# Altium integrated library Linear Technology PMIC-Switching Reg LT1074-LT8705.IntLib: 2252 symbols (part 2 of 124)
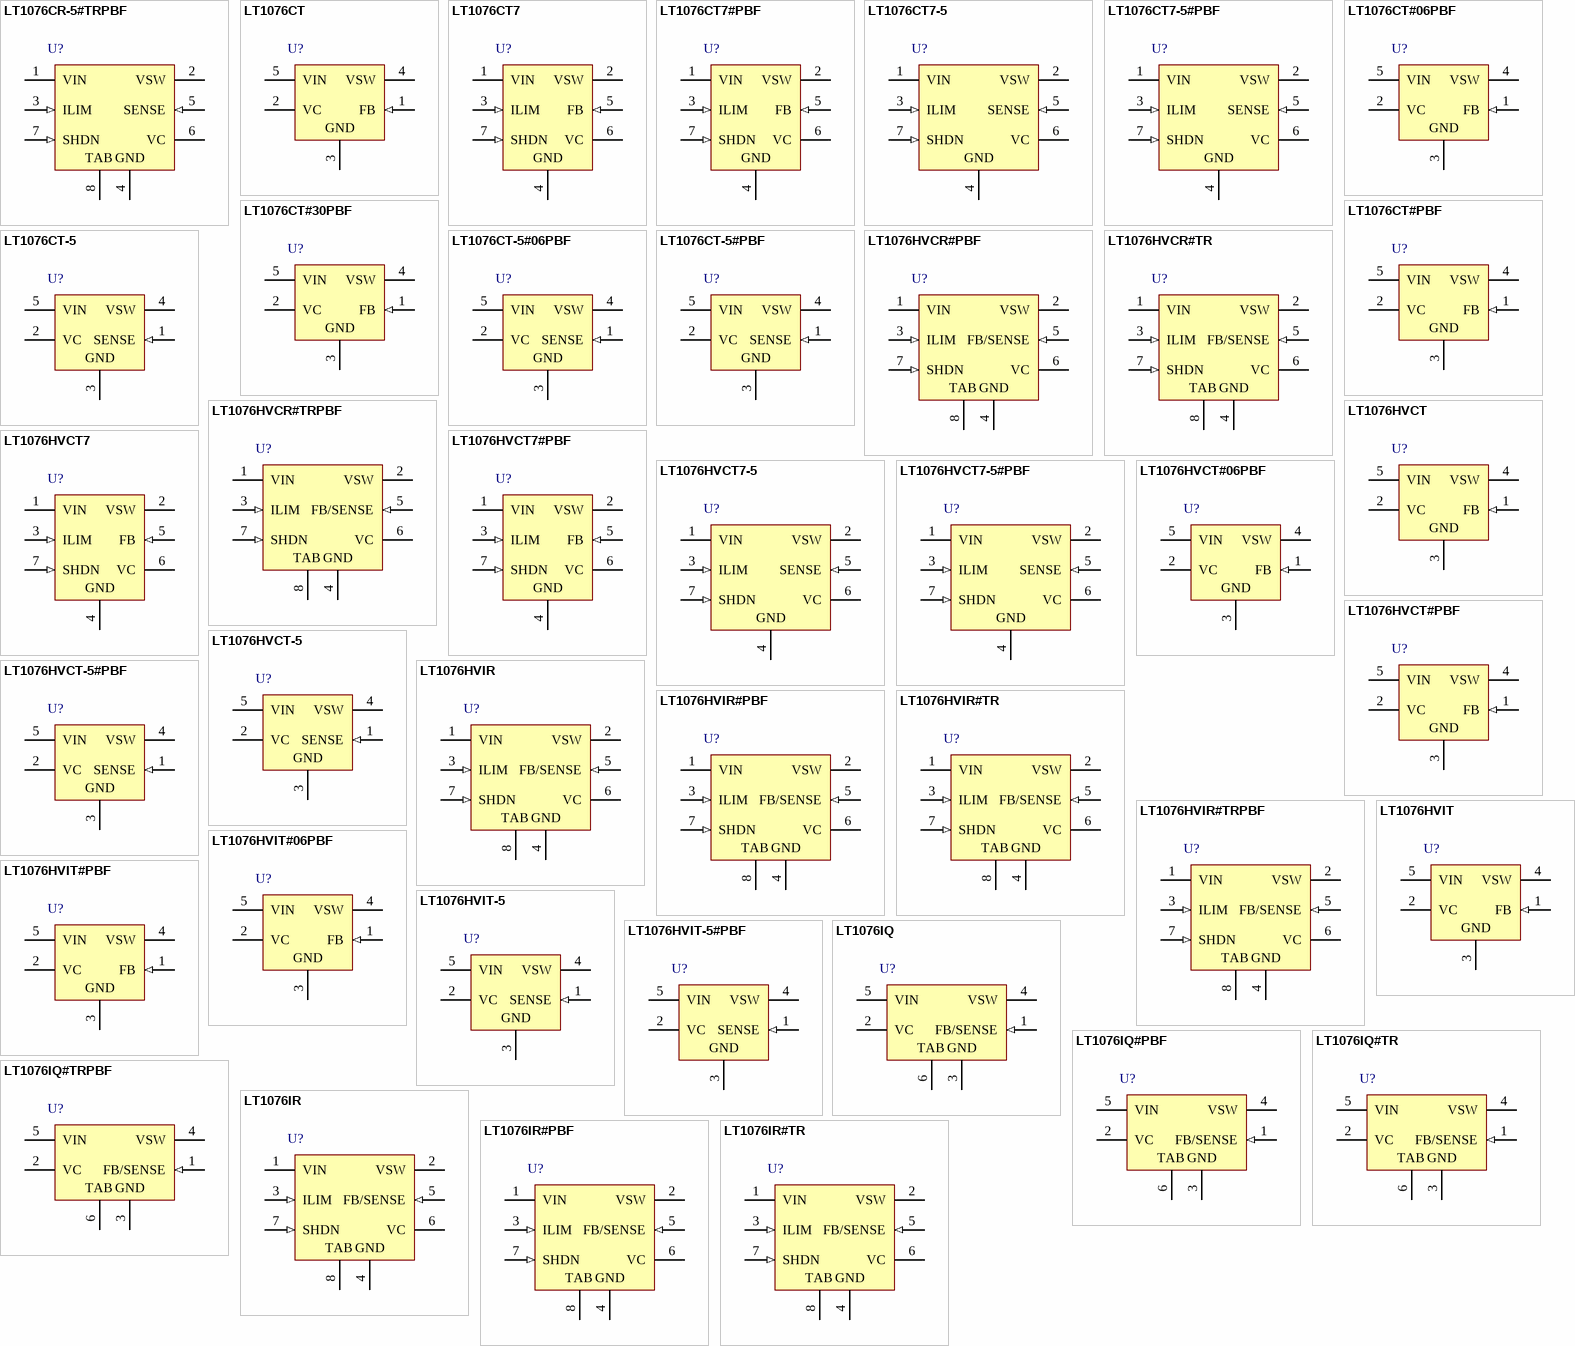
[diagram p72: symbols LT1076CR-5#TRPBF to LT1076IR#TR]

## LT1076CT7#PBF
designator U?
Step-Down Switching Regulator, 7-pin FM (T7-7), 0 to 70 degC, Pb-Free; Manufacturer: Linear Technology; PartNumber: LT1076CT7#PBF; Number of Outputs: 1; PackageReference: T7-7; PackageDescription: 7-Pin Plastic TO-220 (Straight Lead), Body 10.224 x 4.382 mm, Pitch 1.27 mm; Supplier 1: Digi-Key; Supplier Part Number 1: LT1076CT7#PBF-ND; RoHS: TRUE
footprint LT-T7-7-S_V (FM, 7-Leads, Body 10.55x4.6mm, Pitch 1.27mm)
pins: 1 VIN (power) "The VIN pin is both the supply voltage for internal control circuitry and one end of the high current switch.", 2 VSW (power), 3 ILIM (in) "The ILIM pin is used to reduce current limit below the preset value of 6.5A.", 4 GND (power) "It might seem unusual to describe a ground pin, but in the case of regulators, the ground pin must be connected properly to ensure good load regulation.", 5 FB (in) "The feedback pin is the inverting input of an error amplifier which controls the regulator output by adjusting duty cycle.", 6 VC, 7 SHDN (in) "The shutdown pin is used for undervoltage lockout, micropower shutdown, soft-start, delayed start, or as a general purpose on/off control of the regulator output."

## LT1076CT7-5
designator U?
Step-Down Switching Regulator, 7-pin FM (T7-7), 0 to 70 degC; Manufacturer: Linear Technology; PartNumber: LT1076CT7-5; Number of Outputs: 1; PackageReference: T7-7; PackageDescription: 7-Pin Plastic TO-220 (Straight Lead), Body 10.224 x 4.382 mm, Pitch 1.27 mm; Supplier 1: Digi-Key; Supplier Part Number 1: LT1076CT7-5-ND; RoHS: FALSE
footprint LT-T7-7-S_V (FM, 7-Leads, Body 10.55x4.6mm, Pitch 1.27mm)
pins: 1 VIN (power), 2 VSW (power), 3 ILIM (in), 4 GND (power), 5 SENSE (in), 6 VC, 7 SHDN (in)

## LT1076CT7-5#PBF
designator U?
Step-Down Switching Regulator, 7-pin FM (T7-7), 0 to 70 degC, Pb-Free; Manufacturer: Linear Technology; PartNumber: LT1076CT7-5#PBF; Number of Outputs: 1; PackageReference: T7-7; PackageDescription: 7-Pin Plastic TO-220 (Straight Lead), Body 10.224 x 4.382 mm, Pitch 1.27 mm; Supplier 1: Digi-Key; Supplier Part Number 1: LT1076CT7-5#PBF-ND; RoHS: TRUE
footprint LT-T7-7-S_V (FM, 7-Leads, Body 10.55x4.6mm, Pitch 1.27mm)
pins: 1 VIN (power), 2 VSW (power), 3 ILIM (in), 4 GND (power), 5 SENSE (in), 6 VC, 7 SHDN (in)

## LT1076CT#06PBF
designator U?
Step-Down Switching Regulator, 5-pin FM (T-5), 0 to 70 degC, Pb-Free; Manufacturer: Linear Technology; PartNumber: LT1076CT#06PBF; Number of Outputs: 1; PackageReference: T-5; PackageDescription: 5-Pin Plastic TO-220 (Standard), Body 10.224 x 8.89 mm, Pitch 1.7 mm; Supplier 1: Digi-Key; Supplier Part Number 1: LT1076CT#06PBF-ND; RoHS: TRUE
footprint LT-T-5-S (FM, 5-Leads, Body 10.55x4.6mm, Pitch 1.7mm)
pins: 1 FB (in) "The feedback pin is the inverting input of an error amplifier which controls the regulator output by adjusting duty cycle. The noninverting input is internally connected to a trimmed 2.21V reference. Input bias current is (See Datasheet)", 2 VC, 3 GND (power) "It might seem unusual to describe a ground pin, but in the case of regulators, the ground pin must be connected properly to ensure good load regulation. The internal reference voltage is referenced to the ground pin; so any (See Datasheet)", 4 VSW (power), 5 VIN (power) "The VIN pin is both the supply voltage for internal control circuitry and one end of the high current switch. It is important, especially at low input voltages, that this pin be bypassed with a low ESR, and low inductance (See Datasheet)"

## LT1076CT#30PBF
designator U?
Step-Down Switching Regulator, 5-pin FM (T-5), 0 to 70 degC, Pb-Free; Manufacturer: Linear Technology; PartNumber: LT1076CT#30PBF; Number of Outputs: 1; PackageReference: T-5; PackageDescription: 5-Pin Plastic TO-220 (Standard), Body 10.224 x 8.89 mm, Pitch 1.7 mm; Supplier 1: Digi-Key; Supplier Part Number 1: LT1076CT#30PBF-ND; RoHS: TRUE
footprint LT-T-5-S (FM, 5-Leads, Body 10.55x4.6mm, Pitch 1.7mm)
pins: 1 FB (in) "The feedback pin is the inverting input of an error amplifier which controls the regulator output by adjusting duty cycle. The noninverting input is internally connected to a trimmed 2.21V reference. Input bias current is (See Datasheet)", 2 VC, 3 GND (power) "It might seem unusual to describe a ground pin, but in the case of regulators, the ground pin must be connected properly to ensure good load regulation. The internal reference voltage is referenced to the ground pin; so any (See Datasheet)", 4 VSW (power), 5 VIN (power) "The VIN pin is both the supply voltage for internal control circuitry and one end of the high current switch. It is important, especially at low input voltages, that this pin be bypassed with a low ESR, and low inductance (See Datasheet)"

## LT1076CT#PBF
designator U?
Step-Down Switching Regulator, 5-pin FM (T-5), 0 to 70 degC, Pb-Free; Manufacturer: Linear Technology; PartNumber: LT1076CT#PBF; Number of Outputs: 1; PackageReference: T-5; PackageDescription: 5-Pin Plastic TO-220 (Standard), Body 10.224 x 8.89 mm, Pitch 1.7 mm; Supplier 1: Digi-Key; Supplier Part Number 1: LT1076CT#PBF-ND; RoHS: TRUE
footprint LT-T-5-S (FM, 5-Leads, Body 10.55x4.6mm, Pitch 1.7mm)
pins: 1 FB (in) "The feedback pin is the inverting input of an error amplifier which controls the regulator output by adjusting duty cycle. The noninverting input is internally connected to a trimmed 2.21V reference. Input bias current is (See Datasheet)", 2 VC, 3 GND (power) "It might seem unusual to describe a ground pin, but in the case of regulators, the ground pin must be connected properly to ensure good load regulation. The internal reference voltage is referenced to the ground pin; so any (See Datasheet)", 4 VSW (power), 5 VIN (power) "The VIN pin is both the supply voltage for internal control circuitry and one end of the high current switch. It is important, especially at low input voltages, that this pin be bypassed with a low ESR, and low inductance (See Datasheet)"

## LT1076CT-5
designator U?
Step-Down Switching Regulator, 5-pin FM (T-5), 0 to 70 degC; Manufacturer: Linear Technology; PartNumber: LT1076CT-5; Number of Outputs: 1; PackageReference: T-5; PackageDescription: 5-Pin Plastic TO-220 (Standard), Body 10.224 x 8.89 mm, Pitch 1.7 mm; Supplier 1: Digi-Key; Supplier Part Number 1: LT1076CT-5-ND; RoHS: FALSE
footprint LT-T-5-S (FM, 5-Leads, Body 10.55x4.6mm, Pitch 1.7mm)
pins: 1 SENSE (in), 2 VC, 3 GND (power), 4 VSW (power), 5 VIN (power)

## LT1076CT-5#06PBF
designator U?
Step-Down Switching Regulator, 5-pin FM (T-5), 0 to 70 degC, Pb-Free; Manufacturer: Linear Technology; PartNumber: LT1076CT-5#06PBF; Number of Outputs: 1; PackageReference: T-5; PackageDescription: 5-Pin Plastic TO-220 (Standard), Body 10.224 x 8.89 mm, Pitch 1.7 mm; Supplier 1: Digi-Key; Supplier Part Number 1: LT1076CT-5#06PBF-ND; RoHS: TRUE
footprint LT-T-5-S (FM, 5-Leads, Body 10.55x4.6mm, Pitch 1.7mm)
pins: 1 SENSE (in), 2 VC, 3 GND (power), 4 VSW (power), 5 VIN (power)

## LT1076CT-5#PBF
designator U?
Step-Down Switching Regulator, 5-pin FM (T-5), 0 to 70 degC, Pb-Free; Manufacturer: Linear Technology; PartNumber: LT1076CT-5#PBF; Number of Outputs: 1; PackageReference: T-5; PackageDescription: 5-Pin Plastic TO-220 (Standard), Body 10.224 x 8.89 mm, Pitch 1.7 mm; Supplier 1: Digi-Key; Supplier Part Number 1: LT1076CT-5#PBF-ND; RoHS: TRUE
footprint LT-T-5-S (FM, 5-Leads, Body 10.55x4.6mm, Pitch 1.7mm)
pins: 1 SENSE (in), 2 VC, 3 GND (power), 4 VSW (power), 5 VIN (power)

## LT1076HVCR#PBF
designator U?
Step-Down Switching Regulator, 7-pin DPAK (R-7), 0 to 70 degC, Pb-Free; Manufacturer: Linear Technology; PartNumber: LT1076HVCR#PBF; Number of Outputs: 1; PackageReference: R-7; PackageDescription: 7-Pin Plastic DD Pak, Body 10.2235 x 8.89 mm, Pitch 1.27 mm; Supplier 1: Digi-Key; Supplier Part Number 1: LT1076HVCR#PBF-ND; RoHS: TRUE
footprint LT-R-7_N (DPAK, 7-Leads, Body 10.224x8.89mm, Pitch 1.27mm, IPC Medium Density)
footprint LT-R-7_L (DPAK, 7-Leads, Body 10.224x8.89mm, Pitch 1.27mm, IPC High Density)
footprint LT-R-7_M (DPAK, 7-Leads, Body 10.224x8.89mm, Pitch 1.27mm, IPC Low Density)
pins: 1 VIN (power) "The VIN pin is both the supply voltage for internal control circuitry and one end of the high current switch.", 2 VSW (power), 3 ILIM (in) "The ILIM pin is used to reduce current limit below the preset value of 6.5A.", 4 GND (power) "It might seem unusual to describe a ground pin, but in the case of regulators, the ground pin must be connected properly to ensure good load regulation.", 5 FB/SENSE (in) "The feedback pin is the inverting input of an error amplifier which controls the regulator output by adjusting duty cycle.", 6 VC, 7 SHDN (in) "The shutdown pin is used for undervoltage lockout, micropower shutdown, soft-start, delayed start, or as a general purpose on/off control of the regulator output.", 8 TAB (power)

## LT1076HVCR#TR
designator U?
Step-Down Switching Regulator, 7-pin DPAK (R-7), 0 to 70 degC, Tape and Reel; Manufacturer: Linear Technology; PartNumber: LT1076HVCR#TR; Number of Outputs: 1; PackageReference: R-7; PackageDescription: 7-Pin Plastic DD Pak, Body 10.2235 x 8.89 mm, Pitch 1.27 mm; Supplier 1: Digi-Key; Supplier Part Number 1: LT1076HVCR#TR-ND; RoHS: FALSE
footprint LT-R-7_N (DPAK, 7-Leads, Body 10.224x8.89mm, Pitch 1.27mm, IPC Medium Density)
footprint LT-R-7_L (DPAK, 7-Leads, Body 10.224x8.89mm, Pitch 1.27mm, IPC High Density)
footprint LT-R-7_M (DPAK, 7-Leads, Body 10.224x8.89mm, Pitch 1.27mm, IPC Low Density)
pins: 1 VIN (power) "The VIN pin is both the supply voltage for internal control circuitry and one end of the high current switch.", 2 VSW (power), 3 ILIM (in) "The ILIM pin is used to reduce current limit below the preset value of 6.5A.", 4 GND (power) "It might seem unusual to describe a ground pin, but in the case of regulators, the ground pin must be connected properly to ensure good load regulation.", 5 FB/SENSE (in) "The feedback pin is the inverting input of an error amplifier which controls the regulator output by adjusting duty cycle.", 6 VC, 7 SHDN (in) "The shutdown pin is used for undervoltage lockout, micropower shutdown, soft-start, delayed start, or as a general purpose on/off control of the regulator output.", 8 TAB (power)

## LT1076HVCR#TRPBF
designator U?
Step-Down Switching Regulator, 7-pin DPAK (R-7), 0 to 70 degC, Pb-Free, Tape and Reel; Manufacturer: Linear Technology; PartNumber: LT1076HVCR#TRPBF; Number of Outputs: 1; PackageReference: R-7; PackageDescription: 7-Pin Plastic DD Pak, Body 10.2235 x 8.89 mm, Pitch 1.27 mm; Supplier 1: Digi-Key; Supplier Part Number 1: LT1076HVCR#TRPBF-ND; RoHS: TRUE
footprint LT-R-7_N (DPAK, 7-Leads, Body 10.224x8.89mm, Pitch 1.27mm, IPC Medium Density)
footprint LT-R-7_L (DPAK, 7-Leads, Body 10.224x8.89mm, Pitch 1.27mm, IPC High Density)
footprint LT-R-7_M (DPAK, 7-Leads, Body 10.224x8.89mm, Pitch 1.27mm, IPC Low Density)
pins: 1 VIN (power) "The VIN pin is both the supply voltage for internal control circuitry and one end of the high current switch.", 2 VSW (power), 3 ILIM (in) "The ILIM pin is used to reduce current limit below the preset value of 6.5A.", 4 GND (power) "It might seem unusual to describe a ground pin, but in the case of regulators, the ground pin must be connected properly to ensure good load regulation.", 5 FB/SENSE (in) "The feedback pin is the inverting input of an error amplifier which controls the regulator output by adjusting duty cycle.", 6 VC, 7 SHDN (in) "The shutdown pin is used for undervoltage lockout, micropower shutdown, soft-start, delayed start, or as a general purpose on/off control of the regulator output.", 8 TAB (power)

## LT1076HVCT
designator U?
Step-Down Switching Regulator, 5-pin FM (T-5), 0 to 70 degC; Manufacturer: Linear Technology; PartNumber: LT1076HVCT; Number of Outputs: 1; PackageReference: T-5; PackageDescription: 5-Pin Plastic TO-220 (Standard), Body 10.224 x 8.89 mm, Pitch 1.7 mm; Supplier 1: Digi-Key; Supplier Part Number 1: LT1076HVCT-ND; RoHS: FALSE
footprint LT-T-5-S (FM, 5-Leads, Body 10.55x4.6mm, Pitch 1.7mm)
pins: 1 FB (in) "The feedback pin is the inverting input of an error amplifier which controls the regulator output by adjusting duty cycle. The noninverting input is internally connected to a trimmed 2.21V reference. Input bias current is (See Datasheet)", 2 VC, 3 GND (power) "It might seem unusual to describe a ground pin, but in the case of regulators, the ground pin must be connected properly to ensure good load regulation. The internal reference voltage is referenced to the ground pin; so any (See Datasheet)", 4 VSW (power), 5 VIN (power) "The VIN pin is both the supply voltage for internal control circuitry and one end of the high current switch. It is important, especially at low input voltages, that this pin be bypassed with a low ESR, and low inductance (See Datasheet)"

## LT1076HVCT7
designator U?
Step-Down Switching Regulator, 7-pin FM (T7-7), 0 to 70 degC; Manufacturer: Linear Technology; PartNumber: LT1076HVCT7; Number of Outputs: 1; PackageReference: T7-7; PackageDescription: 7-Pin Plastic TO-220 (Straight Lead), Body 10.224 x 4.382 mm, Pitch 1.27 mm; Supplier 1: Digi-Key; Supplier Part Number 1: LT1076HVCT7-ND; RoHS: FALSE
footprint LT-T7-7-S_V (FM, 7-Leads, Body 10.55x4.6mm, Pitch 1.27mm)
pins: 1 VIN (power) "The VIN pin is both the supply voltage for internal control circuitry and one end of the high current switch.", 2 VSW (power), 3 ILIM (in) "The ILIM pin is used to reduce current limit below the preset value of 6.5A.", 4 GND (power) "It might seem unusual to describe a ground pin, but in the case of regulators, the ground pin must be connected properly to ensure good load regulation.", 5 FB (in) "The feedback pin is the inverting input of an error amplifier which controls the regulator output by adjusting duty cycle.", 6 VC, 7 SHDN (in) "The shutdown pin is used for undervoltage lockout, micropower shutdown, soft-start, delayed start, or as a general purpose on/off control of the regulator output."

## LT1076HVCT7#PBF
designator U?
Step-Down Switching Regulator, 7-pin FM (T7-7), 0 to 70 degC, Pb-Free; Manufacturer: Linear Technology; PartNumber: LT1076HVCT7#PBF; Number of Outputs: 1; PackageReference: T7-7; PackageDescription: 7-Pin Plastic TO-220 (Straight Lead), Body 10.224 x 4.382 mm, Pitch 1.27 mm; Supplier 1: Digi-Key; Supplier Part Number 1: LT1076HVCT7#PBF-ND; RoHS: TRUE
footprint LT-T7-7-S_V (FM, 7-Leads, Body 10.55x4.6mm, Pitch 1.27mm)
pins: 1 VIN (power) "The VIN pin is both the supply voltage for internal control circuitry and one end of the high current switch.", 2 VSW (power), 3 ILIM (in) "The ILIM pin is used to reduce current limit below the preset value of 6.5A.", 4 GND (power) "It might seem unusual to describe a ground pin, but in the case of regulators, the ground pin must be connected properly to ensure good load regulation.", 5 FB (in) "The feedback pin is the inverting input of an error amplifier which controls the regulator output by adjusting duty cycle.", 6 VC, 7 SHDN (in) "The shutdown pin is used for undervoltage lockout, micropower shutdown, soft-start, delayed start, or as a general purpose on/off control of the regulator output."

## LT1076HVCT7-5
designator U?
Step-Down Switching Regulator, 7-pin FM (T7-7), 0 to 70 degC; Manufacturer: Linear Technology; PartNumber: LT1076HVCT7-5; Number of Outputs: 1; PackageReference: T7-7; PackageDescription: 7-Pin Plastic TO-220 (Straight Lead), Body 10.224 x 4.382 mm, Pitch 1.27 mm; Supplier 1: Digi-Key; Supplier Part Number 1: LT1076HVCT7-5-ND; RoHS: FALSE
footprint LT-T7-7-S_V (FM, 7-Leads, Body 10.55x4.6mm, Pitch 1.27mm)
pins: 1 VIN (power), 2 VSW (power), 3 ILIM (in), 4 GND (power), 5 SENSE (in), 6 VC, 7 SHDN (in)

## LT1076HVCT7-5#PBF
designator U?
Step-Down Switching Regulator, 7-pin FM (T7-7), 0 to 70 degC, Pb-Free; Manufacturer: Linear Technology; PartNumber: LT1076HVCT7-5#PBF; Number of Outputs: 1; PackageReference: T7-7; PackageDescription: 7-Pin Plastic TO-220 (Straight Lead), Body 10.224 x 4.382 mm, Pitch 1.27 mm; Supplier 1: Digi-Key; Supplier Part Number 1: LT1076HVCT7-5#PBF-ND; RoHS: TRUE
footprint LT-T7-7-S_V (FM, 7-Leads, Body 10.55x4.6mm, Pitch 1.27mm)
pins: 1 VIN (power), 2 VSW (power), 3 ILIM (in), 4 GND (power), 5 SENSE (in), 6 VC, 7 SHDN (in)

## LT1076HVCT#06PBF
designator U?
Step-Down Switching Regulator, 5-pin FM (T-5), 0 to 70 degC, Pb-Free; Manufacturer: Linear Technology; PartNumber: LT1076HVCT#06PBF; Number of Outputs: 1; PackageReference: T-5; PackageDescription: 5-Pin Plastic TO-220 (Standard), Body 10.224 x 8.89 mm, Pitch 1.7 mm; Supplier 1: Digi-Key; Supplier Part Number 1: LT1076HVCT#06PBF-ND; RoHS: TRUE
footprint LT-T-5-S (FM, 5-Leads, Body 10.55x4.6mm, Pitch 1.7mm)
pins: 1 FB (in) "The feedback pin is the inverting input of an error amplifier which controls the regulator output by adjusting duty cycle. The noninverting input is internally connected to a trimmed 2.21V reference. Input bias current is (See Datasheet)", 2 VC, 3 GND (power) "It might seem unusual to describe a ground pin, but in the case of regulators, the ground pin must be connected properly to ensure good load regulation. The internal reference voltage is referenced to the ground pin; so any (See Datasheet)", 4 VSW (power), 5 VIN (power) "The VIN pin is both the supply voltage for internal control circuitry and one end of the high current switch. It is important, especially at low input voltages, that this pin be bypassed with a low ESR, and low inductance (See Datasheet)"

## LT1076HVCT#PBF
designator U?
Step-Down Switching Regulator, 5-pin FM (T-5), 0 to 70 degC, Pb-Free; Manufacturer: Linear Technology; PartNumber: LT1076HVCT#PBF; Number of Outputs: 1; PackageReference: T-5; PackageDescription: 5-Pin Plastic TO-220 (Standard), Body 10.224 x 8.89 mm, Pitch 1.7 mm; Supplier 1: Digi-Key; Supplier Part Number 1: LT1076HVCT#PBF-ND; RoHS: TRUE
footprint LT-T-5-S (FM, 5-Leads, Body 10.55x4.6mm, Pitch 1.7mm)
pins: 1 FB (in) "The feedback pin is the inverting input of an error amplifier which controls the regulator output by adjusting duty cycle. The noninverting input is internally connected to a trimmed 2.21V reference. Input bias current is (See Datasheet)", 2 VC, 3 GND (power) "It might seem unusual to describe a ground pin, but in the case of regulators, the ground pin must be connected properly to ensure good load regulation. The internal reference voltage is referenced to the ground pin; so any (See Datasheet)", 4 VSW (power), 5 VIN (power) "The VIN pin is both the supply voltage for internal control circuitry and one end of the high current switch. It is important, especially at low input voltages, that this pin be bypassed with a low ESR, and low inductance (See Datasheet)"

## LT1076HVCT-5
designator U?
Step-Down Switching Regulator, 5-pin FM (T-5), 0 to 70 degC; Manufacturer: Linear Technology; PartNumber: LT1076HVCT-5; Number of Outputs: 1; PackageReference: T-5; PackageDescription: 5-Pin Plastic TO-220 (Standard), Body 10.224 x 8.89 mm, Pitch 1.7 mm; Supplier 1: Digi-Key; Supplier Part Number 1: LT1076HVCT-5-ND; RoHS: FALSE
footprint LT-T-5-S (FM, 5-Leads, Body 10.55x4.6mm, Pitch 1.7mm)
pins: 1 SENSE (in), 2 VC, 3 GND (power), 4 VSW (power), 5 VIN (power)

## LT1076HVCT-5#PBF
designator U?
Step-Down Switching Regulator, 5-pin FM (T-5), 0 to 70 degC, Pb-Free; Manufacturer: Linear Technology; PartNumber: LT1076HVCT-5#PBF; Number of Outputs: 1; PackageReference: T-5; PackageDescription: 5-Pin Plastic TO-220 (Standard), Body 10.224 x 8.89 mm, Pitch 1.7 mm; Supplier 1: Digi-Key; Supplier Part Number 1: LT1076HVCT-5#PBF-ND; RoHS: TRUE
footprint LT-T-5-S (FM, 5-Leads, Body 10.55x4.6mm, Pitch 1.7mm)
pins: 1 SENSE (in), 2 VC, 3 GND (power), 4 VSW (power), 5 VIN (power)

## LT1076HVIR
designator U?
Step-Down Switching Regulator, 7-pin DPAK (R-7), -40 to 85 degC; Manufacturer: Linear Technology; PartNumber: LT1076HVIR; Number of Outputs: 1; PackageReference: R-7; PackageDescription: 7-Pin Plastic DD Pak, Body 10.2235 x 8.89 mm, Pitch 1.27 mm; Supplier 1: Digi-Key; Supplier Part Number 1: LT1076HVIR-ND; RoHS: FALSE
footprint LT-R-7_N (DPAK, 7-Leads, Body 10.224x8.89mm, Pitch 1.27mm, IPC Medium Density)
footprint LT-R-7_L (DPAK, 7-Leads, Body 10.224x8.89mm, Pitch 1.27mm, IPC High Density)
footprint LT-R-7_M (DPAK, 7-Leads, Body 10.224x8.89mm, Pitch 1.27mm, IPC Low Density)
pins: 1 VIN (power) "The VIN pin is both the supply voltage for internal control circuitry and one end of the high current switch.", 2 VSW (power), 3 ILIM (in) "The ILIM pin is used to reduce current limit below the preset value of 6.5A.", 4 GND (power) "It might seem unusual to describe a ground pin, but in the case of regulators, the ground pin must be connected properly to ensure good load regulation.", 5 FB/SENSE (in) "The feedback pin is the inverting input of an error amplifier which controls the regulator output by adjusting duty cycle.", 6 VC, 7 SHDN (in) "The shutdown pin is used for undervoltage lockout, micropower shutdown, soft-start, delayed start, or as a general purpose on/off control of the regulator output.", 8 TAB (power)

## LT1076HVIR#PBF
designator U?
Step-Down Switching Regulator, 7-pin DPAK (R-7), -40 to 85 degC, Pb-Free; Manufacturer: Linear Technology; PartNumber: LT1076HVIR#PBF; Number of Outputs: 1; PackageReference: R-7; PackageDescription: 7-Pin Plastic DD Pak, Body 10.2235 x 8.89 mm, Pitch 1.27 mm; Supplier 1: Digi-Key; Supplier Part Number 1: LT1076HVIR#PBF-ND; RoHS: TRUE
footprint LT-R-7_N (DPAK, 7-Leads, Body 10.224x8.89mm, Pitch 1.27mm, IPC Medium Density)
footprint LT-R-7_L (DPAK, 7-Leads, Body 10.224x8.89mm, Pitch 1.27mm, IPC High Density)
footprint LT-R-7_M (DPAK, 7-Leads, Body 10.224x8.89mm, Pitch 1.27mm, IPC Low Density)
pins: 1 VIN (power) "The VIN pin is both the supply voltage for internal control circuitry and one end of the high current switch.", 2 VSW (power), 3 ILIM (in) "The ILIM pin is used to reduce current limit below the preset value of 6.5A.", 4 GND (power) "It might seem unusual to describe a ground pin, but in the case of regulators, the ground pin must be connected properly to ensure good load regulation.", 5 FB/SENSE (in) "The feedback pin is the inverting input of an error amplifier which controls the regulator output by adjusting duty cycle.", 6 VC, 7 SHDN (in) "The shutdown pin is used for undervoltage lockout, micropower shutdown, soft-start, delayed start, or as a general purpose on/off control of the regulator output.", 8 TAB (power)

## LT1076HVIR#TR
designator U?
Step-Down Switching Regulator, 7-pin DPAK (R-7), -40 to 85 degC, Tape and Reel; Manufacturer: Linear Technology; PartNumber: LT1076HVIR#TR; Number of Outputs: 1; PackageReference: R-7; PackageDescription: 7-Pin Plastic DD Pak, Body 10.2235 x 8.89 mm, Pitch 1.27 mm; Supplier 1: Digi-Key; Supplier Part Number 1: LT1076HVIR#TR-ND; RoHS: FALSE
footprint LT-R-7_N (DPAK, 7-Leads, Body 10.224x8.89mm, Pitch 1.27mm, IPC Medium Density)
footprint LT-R-7_L (DPAK, 7-Leads, Body 10.224x8.89mm, Pitch 1.27mm, IPC High Density)
footprint LT-R-7_M (DPAK, 7-Leads, Body 10.224x8.89mm, Pitch 1.27mm, IPC Low Density)
pins: 1 VIN (power) "The VIN pin is both the supply voltage for internal control circuitry and one end of the high current switch.", 2 VSW (power), 3 ILIM (in) "The ILIM pin is used to reduce current limit below the preset value of 6.5A.", 4 GND (power) "It might seem unusual to describe a ground pin, but in the case of regulators, the ground pin must be connected properly to ensure good load regulation.", 5 FB/SENSE (in) "The feedback pin is the inverting input of an error amplifier which controls the regulator output by adjusting duty cycle.", 6 VC, 7 SHDN (in) "The shutdown pin is used for undervoltage lockout, micropower shutdown, soft-start, delayed start, or as a general purpose on/off control of the regulator output.", 8 TAB (power)

## LT1076HVIR#TRPBF
designator U?
Step-Down Switching Regulator, 7-pin DPAK (R-7), -40 to 85 degC, Pb-Free, Tape and Reel; Manufacturer: Linear Technology; PartNumber: LT1076HVIR#TRPBF; Number of Outputs: 1; PackageReference: R-7; PackageDescription: 7-Pin Plastic DD Pak, Body 10.2235 x 8.89 mm, Pitch 1.27 mm; Supplier 1: Digi-Key; Supplier Part Number 1: LT1076HVIR#TRPBF-ND; RoHS: TRUE
footprint LT-R-7_N (DPAK, 7-Leads, Body 10.224x8.89mm, Pitch 1.27mm, IPC Medium Density)
footprint LT-R-7_L (DPAK, 7-Leads, Body 10.224x8.89mm, Pitch 1.27mm, IPC High Density)
footprint LT-R-7_M (DPAK, 7-Leads, Body 10.224x8.89mm, Pitch 1.27mm, IPC Low Density)
pins: 1 VIN (power) "The VIN pin is both the supply voltage for internal control circuitry and one end of the high current switch.", 2 VSW (power), 3 ILIM (in) "The ILIM pin is used to reduce current limit below the preset value of 6.5A.", 4 GND (power) "It might seem unusual to describe a ground pin, but in the case of regulators, the ground pin must be connected properly to ensure good load regulation.", 5 FB/SENSE (in) "The feedback pin is the inverting input of an error amplifier which controls the regulator output by adjusting duty cycle.", 6 VC, 7 SHDN (in) "The shutdown pin is used for undervoltage lockout, micropower shutdown, soft-start, delayed start, or as a general purpose on/off control of the regulator output.", 8 TAB (power)

## LT1076HVIT
designator U?
Step-Down Switching Regulator, 5-pin FM (T-5), -40 to 85 degC; Manufacturer: Linear Technology; PartNumber: LT1076HVIT; Number of Outputs: 1; PackageReference: T-5; PackageDescription: 5-Pin Plastic TO-220 (Standard), Body 10.224 x 8.89 mm, Pitch 1.7 mm; Supplier 1: Digi-Key; Supplier Part Number 1: LT1076HVIT-ND; RoHS: FALSE
footprint LT-T-5-S (FM, 5-Leads, Body 10.55x4.6mm, Pitch 1.7mm)
pins: 1 FB (in) "The feedback pin is the inverting input of an error amplifier which controls the regulator output by adjusting duty cycle. The noninverting input is internally connected to a trimmed 2.21V reference. Input bias current is (See Datasheet)", 2 VC, 3 GND (power) "It might seem unusual to describe a ground pin, but in the case of regulators, the ground pin must be connected properly to ensure good load regulation. The internal reference voltage is referenced to the ground pin; so any (See Datasheet)", 4 VSW (power), 5 VIN (power) "The VIN pin is both the supply voltage for internal control circuitry and one end of the high current switch. It is important, especially at low input voltages, that this pin be bypassed with a low ESR, and low inductance (See Datasheet)"

## LT1076HVIT#06PBF
designator U?
Step-Down Switching Regulator, 5-pin FM (T-5), -40 to 85 degC, Pb-Free; Manufacturer: Linear Technology; PartNumber: LT1076HVIT#06PBF; Number of Outputs: 1; PackageReference: T-5; PackageDescription: 5-Pin Plastic TO-220 (Standard), Body 10.224 x 8.89 mm, Pitch 1.7 mm; Supplier 1: Digi-Key; Supplier Part Number 1: LT1076HVIT#06PBF-ND; RoHS: TRUE
footprint LT-T-5-S (FM, 5-Leads, Body 10.55x4.6mm, Pitch 1.7mm)
pins: 1 FB (in) "The feedback pin is the inverting input of an error amplifier which controls the regulator output by adjusting duty cycle. The noninverting input is internally connected to a trimmed 2.21V reference. Input bias current is (See Datasheet)", 2 VC, 3 GND (power) "It might seem unusual to describe a ground pin, but in the case of regulators, the ground pin must be connected properly to ensure good load regulation. The internal reference voltage is referenced to the ground pin; so any (See Datasheet)", 4 VSW (power), 5 VIN (power) "The VIN pin is both the supply voltage for internal control circuitry and one end of the high current switch. It is important, especially at low input voltages, that this pin be bypassed with a low ESR, and low inductance (See Datasheet)"

## LT1076HVIT#PBF
designator U?
Step-Down Switching Regulator, 5-pin FM (T-5), -40 to 85 degC, Pb-Free; Manufacturer: Linear Technology; PartNumber: LT1076HVIT#PBF; Number of Outputs: 1; PackageReference: T-5; PackageDescription: 5-Pin Plastic TO-220 (Standard), Body 10.224 x 8.89 mm, Pitch 1.7 mm; Supplier 1: Digi-Key; Supplier Part Number 1: LT1076HVIT#PBF-ND; RoHS: TRUE
footprint LT-T-5-S (FM, 5-Leads, Body 10.55x4.6mm, Pitch 1.7mm)
pins: 1 FB (in) "The feedback pin is the inverting input of an error amplifier which controls the regulator output by adjusting duty cycle. The noninverting input is internally connected to a trimmed 2.21V reference. Input bias current is (See Datasheet)", 2 VC, 3 GND (power) "It might seem unusual to describe a ground pin, but in the case of regulators, the ground pin must be connected properly to ensure good load regulation. The internal reference voltage is referenced to the ground pin; so any (See Datasheet)", 4 VSW (power), 5 VIN (power) "The VIN pin is both the supply voltage for internal control circuitry and one end of the high current switch. It is important, especially at low input voltages, that this pin be bypassed with a low ESR, and low inductance (See Datasheet)"

## LT1076HVIT-5
designator U?
Step-Down Switching Regulator, 5-pin FM (T-5), -40 to 85 degC; Manufacturer: Linear Technology; PartNumber: LT1076HVIT-5; Number of Outputs: 1; PackageReference: T-5; PackageDescription: 5-Pin Plastic TO-220 (Standard), Body 10.224 x 8.89 mm, Pitch 1.7 mm; Supplier 1: Digi-Key; Supplier Part Number 1: LT1076HVIT-5-ND; RoHS: FALSE
footprint LT-T-5-S (FM, 5-Leads, Body 10.55x4.6mm, Pitch 1.7mm)
pins: 1 SENSE (in), 2 VC, 3 GND (power), 4 VSW (power), 5 VIN (power)

## LT1076HVIT-5#PBF
designator U?
Step-Down Switching Regulator, 5-pin FM (T-5), -40 to 85 degC, Pb-Free; Manufacturer: Linear Technology; PartNumber: LT1076HVIT-5#PBF; Number of Outputs: 1; PackageReference: T-5; PackageDescription: 5-Pin Plastic TO-220 (Standard), Body 10.224 x 8.89 mm, Pitch 1.7 mm; Supplier 1: Digi-Key; Supplier Part Number 1: LT1076HVIT-5#PBF-ND; RoHS: TRUE
footprint LT-T-5-S (FM, 5-Leads, Body 10.55x4.6mm, Pitch 1.7mm)
pins: 1 SENSE (in), 2 VC, 3 GND (power), 4 VSW (power), 5 VIN (power)

## LT1076IQ
designator U?
Step-Down Switching Regulator, 5-pin DPAK (Q-5), -40 to 85 degC; Manufacturer: Linear Technology; PartNumber: LT1076IQ; Number of Outputs: 1; PackageReference: Q-5; PackageDescription: 5-Pin Plastic DD Pak, Body 10.2235 x 8.89 mm, Pitch 1.702 mm; Supplier 1: Digi-Key; Supplier Part Number 1: LT1076IQ-ND; RoHS: FALSE
footprint LT-Q-5_N (DPAK, 5-Leads, Body 10.22x8.89mm, Pitch 1.702mm, IPC Medium Density)
footprint LT-Q-5_L (DPAK, 5-Leads, Body 10.22x8.89mm, Pitch 1.702mm, IPC High Density)
footprint LT-Q-5_M (DPAK, 5-Leads, Body 10.22x8.89mm, Pitch 1.702mm, IPC Low Density)
pins: 1 FB/SENSE (in), 2 VC, 3 GND (power) "It might seem unusual to describe a ground pin, but in the case of regulators, the ground pin must be connected properly to ensure good load regulation. The internal reference voltage is referenced to the ground pin; so any (See Datasheet)", 4 VSW (power), 5 VIN (power) "The VIN pin is both the supply voltage for internal control circuitry and one end of the high current switch. It is important, especially at low input voltages, that this pin be bypassed with a low ESR, and low inductance (See Datasheet)", 6 TAB (power) "It might seem unusual to describe a ground pin, but in the case of regulators, the ground pin must be connected properly to ensure good load regulation. The internal reference voltage is referenced to the ground pin; so any (See Datasheet)"

## LT1076IQ#PBF
designator U?
Step-Down Switching Regulator, 5-pin DPAK (Q-5), -40 to 85 degC, Pb-Free; Manufacturer: Linear Technology; PartNumber: LT1076IQ#PBF; Number of Outputs: 1; PackageReference: Q-5; PackageDescription: 5-Pin Plastic DD Pak, Body 10.2235 x 8.89 mm, Pitch 1.702 mm; Supplier 1: Digi-Key; Supplier Part Number 1: LT1076IQ#PBF-ND; RoHS: TRUE
footprint LT-Q-5_N (DPAK, 5-Leads, Body 10.22x8.89mm, Pitch 1.702mm, IPC Medium Density)
footprint LT-Q-5_L (DPAK, 5-Leads, Body 10.22x8.89mm, Pitch 1.702mm, IPC High Density)
footprint LT-Q-5_M (DPAK, 5-Leads, Body 10.22x8.89mm, Pitch 1.702mm, IPC Low Density)
pins: 1 FB/SENSE (in), 2 VC, 3 GND (power) "It might seem unusual to describe a ground pin, but in the case of regulators, the ground pin must be connected properly to ensure good load regulation. The internal reference voltage is referenced to the ground pin; so any (See Datasheet)", 4 VSW (power), 5 VIN (power) "The VIN pin is both the supply voltage for internal control circuitry and one end of the high current switch. It is important, especially at low input voltages, that this pin be bypassed with a low ESR, and low inductance (See Datasheet)", 6 TAB (power) "It might seem unusual to describe a ground pin, but in the case of regulators, the ground pin must be connected properly to ensure good load regulation. The internal reference voltage is referenced to the ground pin; so any (See Datasheet)"

## LT1076IQ#TR
designator U?
Step-Down Switching Regulator, 5-pin DPAK (Q-5), -40 to 85 degC, Tape and Reel; Manufacturer: Linear Technology; PartNumber: LT1076IQ#TR; Number of Outputs: 1; PackageReference: Q-5; PackageDescription: 5-Pin Plastic DD Pak, Body 10.2235 x 8.89 mm, Pitch 1.702 mm; Supplier 1: Digi-Key; Supplier Part Number 1: LT1076IQ#TR-ND; RoHS: FALSE
footprint LT-Q-5_N (DPAK, 5-Leads, Body 10.22x8.89mm, Pitch 1.702mm, IPC Medium Density)
footprint LT-Q-5_L (DPAK, 5-Leads, Body 10.22x8.89mm, Pitch 1.702mm, IPC High Density)
footprint LT-Q-5_M (DPAK, 5-Leads, Body 10.22x8.89mm, Pitch 1.702mm, IPC Low Density)
pins: 1 FB/SENSE (in), 2 VC, 3 GND (power) "It might seem unusual to describe a ground pin, but in the case of regulators, the ground pin must be connected properly to ensure good load regulation. The internal reference voltage is referenced to the ground pin; so any (See Datasheet)", 4 VSW (power), 5 VIN (power) "The VIN pin is both the supply voltage for internal control circuitry and one end of the high current switch. It is important, especially at low input voltages, that this pin be bypassed with a low ESR, and low inductance (See Datasheet)", 6 TAB (power) "It might seem unusual to describe a ground pin, but in the case of regulators, the ground pin must be connected properly to ensure good load regulation. The internal reference voltage is referenced to the ground pin; so any (See Datasheet)"

## LT1076IQ#TRPBF
designator U?
Step-Down Switching Regulator, 5-pin DPAK (Q-5), -40 to 85 degC, Pb-Free, Tape and Reel; Manufacturer: Linear Technology; PartNumber: LT1076IQ#TRPBF; Number of Outputs: 1; PackageReference: Q-5; PackageDescription: 5-Pin Plastic DD Pak, Body 10.2235 x 8.89 mm, Pitch 1.702 mm; Supplier 1: Digi-Key; Supplier Part Number 1: LT1076IQ#TRPBF-ND; RoHS: TRUE
footprint LT-Q-5_N (DPAK, 5-Leads, Body 10.22x8.89mm, Pitch 1.702mm, IPC Medium Density)
footprint LT-Q-5_L (DPAK, 5-Leads, Body 10.22x8.89mm, Pitch 1.702mm, IPC High Density)
footprint LT-Q-5_M (DPAK, 5-Leads, Body 10.22x8.89mm, Pitch 1.702mm, IPC Low Density)
pins: 1 FB/SENSE (in), 2 VC, 3 GND (power) "It might seem unusual to describe a ground pin, but in the case of regulators, the ground pin must be connected properly to ensure good load regulation. The internal reference voltage is referenced to the ground pin; so any (See Datasheet)", 4 VSW (power), 5 VIN (power) "The VIN pin is both the supply voltage for internal control circuitry and one end of the high current switch. It is important, especially at low input voltages, that this pin be bypassed with a low ESR, and low inductance (See Datasheet)", 6 TAB (power) "It might seem unusual to describe a ground pin, but in the case of regulators, the ground pin must be connected properly to ensure good load regulation. The internal reference voltage is referenced to the ground pin; so any (See Datasheet)"

## LT1076IR
designator U?
Step-Down Switching Regulator, 7-pin DPAK (R-7), -40 to 85 degC; Manufacturer: Linear Technology; PartNumber: LT1076IR; Number of Outputs: 1; PackageReference: R-7; PackageDescription: 7-Pin Plastic DD Pak, Body 10.2235 x 8.89 mm, Pitch 1.27 mm; Supplier 1: Digi-Key; Supplier Part Number 1: LT1076IR-ND; RoHS: FALSE
footprint LT-R-7_N (DPAK, 7-Leads, Body 10.224x8.89mm, Pitch 1.27mm, IPC Medium Density)
footprint LT-R-7_L (DPAK, 7-Leads, Body 10.224x8.89mm, Pitch 1.27mm, IPC High Density)
footprint LT-R-7_M (DPAK, 7-Leads, Body 10.224x8.89mm, Pitch 1.27mm, IPC Low Density)
pins: 1 VIN (power) "The VIN pin is both the supply voltage for internal control circuitry and one end of the high current switch.", 2 VSW (power), 3 ILIM (in) "The ILIM pin is used to reduce current limit below the preset value of 6.5A.", 4 GND (power) "It might seem unusual to describe a ground pin, but in the case of regulators, the ground pin must be connected properly to ensure good load regulation.", 5 FB/SENSE (in) "The feedback pin is the inverting input of an error amplifier which controls the regulator output by adjusting duty cycle.", 6 VC, 7 SHDN (in) "The shutdown pin is used for undervoltage lockout, micropower shutdown, soft-start, delayed start, or as a general purpose on/off control of the regulator output.", 8 TAB (power)

## LT1076IR#PBF
designator U?
Step-Down Switching Regulator, 7-pin DPAK (R-7), -40 to 85 degC, Pb-Free; Manufacturer: Linear Technology; PartNumber: LT1076IR#PBF; Number of Outputs: 1; PackageReference: R-7; PackageDescription: 7-Pin Plastic DD Pak, Body 10.2235 x 8.89 mm, Pitch 1.27 mm; Supplier 1: Digi-Key; Supplier Part Number 1: LT1076IR#PBF-ND; RoHS: TRUE
footprint LT-R-7_N (DPAK, 7-Leads, Body 10.224x8.89mm, Pitch 1.27mm, IPC Medium Density)
footprint LT-R-7_L (DPAK, 7-Leads, Body 10.224x8.89mm, Pitch 1.27mm, IPC High Density)
footprint LT-R-7_M (DPAK, 7-Leads, Body 10.224x8.89mm, Pitch 1.27mm, IPC Low Density)
pins: 1 VIN (power) "The VIN pin is both the supply voltage for internal control circuitry and one end of the high current switch.", 2 VSW (power), 3 ILIM (in) "The ILIM pin is used to reduce current limit below the preset value of 6.5A.", 4 GND (power) "It might seem unusual to describe a ground pin, but in the case of regulators, the ground pin must be connected properly to ensure good load regulation.", 5 FB/SENSE (in) "The feedback pin is the inverting input of an error amplifier which controls the regulator output by adjusting duty cycle.", 6 VC, 7 SHDN (in) "The shutdown pin is used for undervoltage lockout, micropower shutdown, soft-start, delayed start, or as a general purpose on/off control of the regulator output.", 8 TAB (power)

## LT1076IR#TR
designator U?
Step-Down Switching Regulator, 7-pin DPAK (R-7), -40 to 85 degC, Tape and Reel; Manufacturer: Linear Technology; PartNumber: LT1076IR#TR; Number of Outputs: 1; PackageReference: R-7; PackageDescription: 7-Pin Plastic DD Pak, Body 10.2235 x 8.89 mm, Pitch 1.27 mm; Supplier 1: Digi-Key; Supplier Part Number 1: LT1076IR#TR-ND; RoHS: FALSE
footprint LT-R-7_N (DPAK, 7-Leads, Body 10.224x8.89mm, Pitch 1.27mm, IPC Medium Density)
footprint LT-R-7_L (DPAK, 7-Leads, Body 10.224x8.89mm, Pitch 1.27mm, IPC High Density)
footprint LT-R-7_M (DPAK, 7-Leads, Body 10.224x8.89mm, Pitch 1.27mm, IPC Low Density)
pins: 1 VIN (power) "The VIN pin is both the supply voltage for internal control circuitry and one end of the high current switch.", 2 VSW (power), 3 ILIM (in) "The ILIM pin is used to reduce current limit below the preset value of 6.5A.", 4 GND (power) "It might seem unusual to describe a ground pin, but in the case of regulators, the ground pin must be connected properly to ensure good load regulation.", 5 FB/SENSE (in) "The feedback pin is the inverting input of an error amplifier which controls the regulator output by adjusting duty cycle.", 6 VC, 7 SHDN (in) "The shutdown pin is used for undervoltage lockout, micropower shutdown, soft-start, delayed start, or as a general purpose on/off control of the regulator output.", 8 TAB (power)

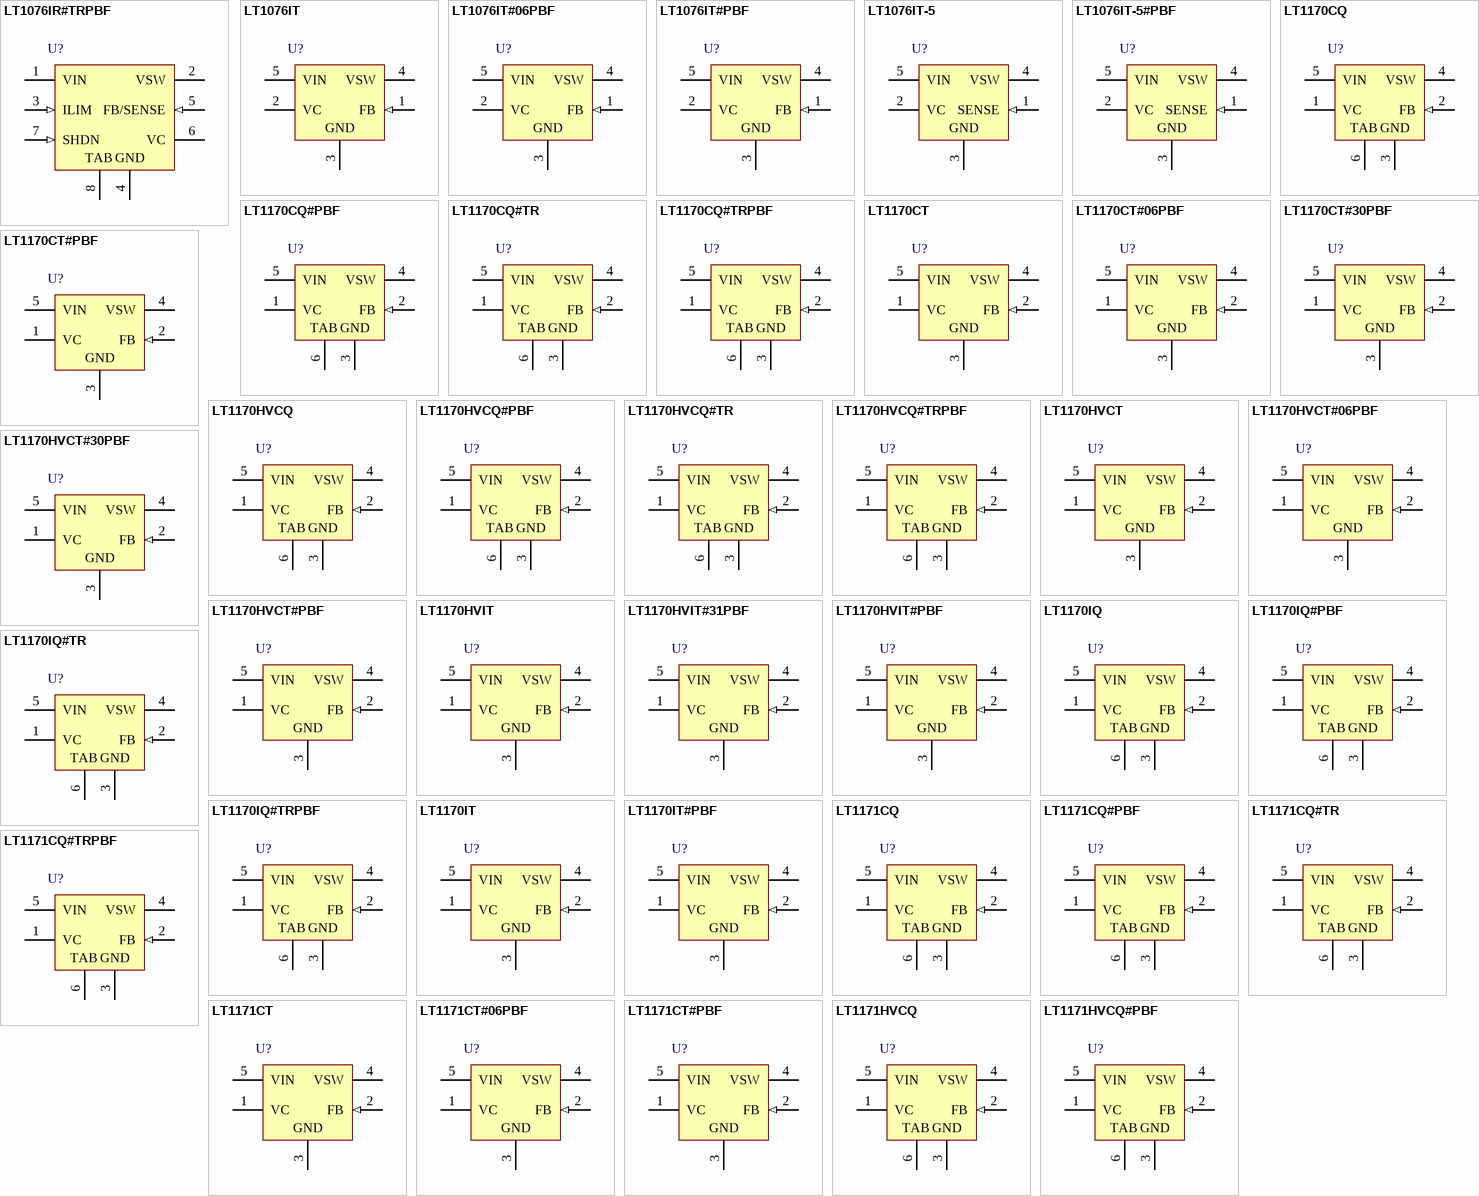
[diagram p2: symbols LT1076IR#TRPBF to LT1171HVCQ#PBF]

## LT1076IR#TRPBF
designator U?
Step-Down Switching Regulator, 7-pin DPAK (R-7), -40 to 85 degC, Pb-Free, Tape and Reel; Manufacturer: Linear Technology; PartNumber: LT1076IR#TRPBF; Number of Outputs: 1; PackageReference: R-7; PackageDescription: 7-Pin Plastic DD Pak, Body 10.2235 x 8.89 mm, Pitch 1.27 mm; Supplier 1: Digi-Key; Supplier Part Number 1: LT1076IR#TRPBF-ND; RoHS: TRUE
footprint LT-R-7_N (DPAK, 7-Leads, Body 10.224x8.89mm, Pitch 1.27mm, IPC Medium Density)
footprint LT-R-7_L (DPAK, 7-Leads, Body 10.224x8.89mm, Pitch 1.27mm, IPC High Density)
footprint LT-R-7_M (DPAK, 7-Leads, Body 10.224x8.89mm, Pitch 1.27mm, IPC Low Density)
pins: 1 VIN (power) "The VIN pin is both the supply voltage for internal control circuitry and one end of the high current switch.", 2 VSW (power), 3 ILIM (in) "The ILIM pin is used to reduce current limit below the preset value of 6.5A.", 4 GND (power) "It might seem unusual to describe a ground pin, but in the case of regulators, the ground pin must be connected properly to ensure good load regulation.", 5 FB/SENSE (in) "The feedback pin is the inverting input of an error amplifier which controls the regulator output by adjusting duty cycle.", 6 VC, 7 SHDN (in) "The shutdown pin is used for undervoltage lockout, micropower shutdown, soft-start, delayed start, or as a general purpose on/off control of the regulator output.", 8 TAB (power)

## LT1076IT
designator U?
Step-Down Switching Regulator, 5-pin FM (T-5), -40 to 85 degC; Manufacturer: Linear Technology; PartNumber: LT1076IT; Number of Outputs: 1; PackageReference: T-5; PackageDescription: 5-Pin Plastic TO-220 (Standard), Body 10.224 x 8.89 mm, Pitch 1.7 mm; Supplier 1: Digi-Key; Supplier Part Number 1: LT1076IT-ND; RoHS: FALSE
footprint LT-T-5-S (FM, 5-Leads, Body 10.55x4.6mm, Pitch 1.7mm)
pins: 1 FB (in) "The feedback pin is the inverting input of an error amplifier which controls the regulator output by adjusting duty cycle. The noninverting input is internally connected to a trimmed 2.21V reference. Input bias current is (See Datasheet)", 2 VC, 3 GND (power) "It might seem unusual to describe a ground pin, but in the case of regulators, the ground pin must be connected properly to ensure good load regulation. The internal reference voltage is referenced to the ground pin; so any (See Datasheet)", 4 VSW (power), 5 VIN (power) "The VIN pin is both the supply voltage for internal control circuitry and one end of the high current switch. It is important, especially at low input voltages, that this pin be bypassed with a low ESR, and low inductance (See Datasheet)"

## LT1076IT#06PBF
designator U?
Step-Down Switching Regulator, 5-pin FM (T-5), -40 to 85 degC, Pb-Free; Manufacturer: Linear Technology; PartNumber: LT1076IT#06PBF; Number of Outputs: 1; PackageReference: T-5; PackageDescription: 5-Pin Plastic TO-220 (Standard), Body 10.224 x 8.89 mm, Pitch 1.7 mm; Supplier 1: Digi-Key; Supplier Part Number 1: LT1076IT#06PBF-ND; RoHS: TRUE
footprint LT-T-5-S (FM, 5-Leads, Body 10.55x4.6mm, Pitch 1.7mm)
pins: 1 FB (in) "The feedback pin is the inverting input of an error amplifier which controls the regulator output by adjusting duty cycle. The noninverting input is internally connected to a trimmed 2.21V reference. Input bias current is (See Datasheet)", 2 VC, 3 GND (power) "It might seem unusual to describe a ground pin, but in the case of regulators, the ground pin must be connected properly to ensure good load regulation. The internal reference voltage is referenced to the ground pin; so any (See Datasheet)", 4 VSW (power), 5 VIN (power) "The VIN pin is both the supply voltage for internal control circuitry and one end of the high current switch. It is important, especially at low input voltages, that this pin be bypassed with a low ESR, and low inductance (See Datasheet)"

## LT1076IT#PBF
designator U?
Step-Down Switching Regulator, 5-pin FM (T-5), -40 to 85 degC, Pb-Free; Manufacturer: Linear Technology; PartNumber: LT1076IT#PBF; Number of Outputs: 1; PackageReference: T-5; PackageDescription: 5-Pin Plastic TO-220 (Standard), Body 10.224 x 8.89 mm, Pitch 1.7 mm; Supplier 1: Digi-Key; Supplier Part Number 1: LT1076IT#PBF-ND; RoHS: TRUE
footprint LT-T-5-S (FM, 5-Leads, Body 10.55x4.6mm, Pitch 1.7mm)
pins: 1 FB (in) "The feedback pin is the inverting input of an error amplifier which controls the regulator output by adjusting duty cycle. The noninverting input is internally connected to a trimmed 2.21V reference. Input bias current is (See Datasheet)", 2 VC, 3 GND (power) "It might seem unusual to describe a ground pin, but in the case of regulators, the ground pin must be connected properly to ensure good load regulation. The internal reference voltage is referenced to the ground pin; so any (See Datasheet)", 4 VSW (power), 5 VIN (power) "The VIN pin is both the supply voltage for internal control circuitry and one end of the high current switch. It is important, especially at low input voltages, that this pin be bypassed with a low ESR, and low inductance (See Datasheet)"

## LT1076IT-5
designator U?
Step-Down Switching Regulator, 5-pin FM (T-5), -40 to 85 degC; Manufacturer: Linear Technology; PartNumber: LT1076IT-5; Number of Outputs: 1; PackageReference: T-5; PackageDescription: 5-Pin Plastic TO-220 (Standard), Body 10.224 x 8.89 mm, Pitch 1.7 mm; Supplier 1: Digi-Key; Supplier Part Number 1: LT1076IT-5-ND; RoHS: FALSE
footprint LT-T-5-S (FM, 5-Leads, Body 10.55x4.6mm, Pitch 1.7mm)
pins: 1 SENSE (in), 2 VC, 3 GND (power), 4 VSW (power), 5 VIN (power)

## LT1076IT-5#PBF
designator U?
Step-Down Switching Regulator, 5-pin FM (T-5), -40 to 85 degC, Pb-Free; Manufacturer: Linear Technology; PartNumber: LT1076IT-5#PBF; Number of Outputs: 1; PackageReference: T-5; PackageDescription: 5-Pin Plastic TO-220 (Standard), Body 10.224 x 8.89 mm, Pitch 1.7 mm; Supplier 1: Digi-Key; Supplier Part Number 1: LT1076IT-5#PBF-ND; RoHS: TRUE
footprint LT-T-5-S (FM, 5-Leads, Body 10.55x4.6mm, Pitch 1.7mm)
pins: 1 SENSE (in), 2 VC, 3 GND (power), 4 VSW (power), 5 VIN (power)

## LT1170CQ
designator U?
100 kHz, 5 A, High Efficiency Switching Regulator, 5-pin DPAK (Q-5), 0 to 100 degC; Manufacturer: Linear Technology; PartNumber: LT1170CQ; Number of Outputs: 1; PackageReference: Q-5; PackageDescription: 5-Pin Plastic DD Pak, Body 10.2235 x 8.89 mm, Pitch 1.702 mm; Supplier 1: Digi-Key; Supplier Part Number 1: LT1170CQ-ND; RoHS: FALSE
footprint LT-Q-5_N (DPAK, 5-Leads, Body 10.22x8.89mm, Pitch 1.702mm, IPC Medium Density)
footprint LT-Q-5_L (DPAK, 5-Leads, Body 10.22x8.89mm, Pitch 1.702mm, IPC High Density)
footprint LT-Q-5_M (DPAK, 5-Leads, Body 10.22x8.89mm, Pitch 1.702mm, IPC Low Density)
pins: 1 VC, 2 FB (in), 3 GND (power), 4 VSW (power), 5 VIN (power), 6 TAB

## LT1170CQ#PBF
designator U?
100 kHz, 5 A, High Efficiency Switching Regulator, 5-pin DPAK (Q-5), 0 to 100 degC, Pb-Free; Manufacturer: Linear Technology; PartNumber: LT1170CQ#PBF; Number of Outputs: 1; PackageReference: Q-5; PackageDescription: 5-Pin Plastic DD Pak, Body 10.2235 x 8.89 mm, Pitch 1.702 mm; Supplier 1: Digi-Key; Supplier Part Number 1: LT1170CQ#PBF-ND; RoHS: TRUE
footprint LT-Q-5_N (DPAK, 5-Leads, Body 10.22x8.89mm, Pitch 1.702mm, IPC Medium Density)
footprint LT-Q-5_L (DPAK, 5-Leads, Body 10.22x8.89mm, Pitch 1.702mm, IPC High Density)
footprint LT-Q-5_M (DPAK, 5-Leads, Body 10.22x8.89mm, Pitch 1.702mm, IPC Low Density)
pins: 1 VC, 2 FB (in), 3 GND (power), 4 VSW (power), 5 VIN (power), 6 TAB

## LT1170CQ#TR
designator U?
100 kHz, 5 A, High Efficiency Switching Regulator, 5-pin DPAK (Q-5), 0 to 100 degC, Tape and Reel; Manufacturer: Linear Technology; PartNumber: LT1170CQ#TR; Number of Outputs: 1; PackageReference: Q-5; PackageDescription: 5-Pin Plastic DD Pak, Body 10.2235 x 8.89 mm, Pitch 1.702 mm; Supplier 1: Digi-Key; Supplier Part Number 1: LT1170CQ#TR-ND; RoHS: FALSE
footprint LT-Q-5_N (DPAK, 5-Leads, Body 10.22x8.89mm, Pitch 1.702mm, IPC Medium Density)
footprint LT-Q-5_L (DPAK, 5-Leads, Body 10.22x8.89mm, Pitch 1.702mm, IPC High Density)
footprint LT-Q-5_M (DPAK, 5-Leads, Body 10.22x8.89mm, Pitch 1.702mm, IPC Low Density)
pins: 1 VC, 2 FB (in), 3 GND (power), 4 VSW (power), 5 VIN (power), 6 TAB

## LT1170CQ#TRPBF
designator U?
100 kHz, 5 A, High Efficiency Switching Regulator, 5-pin DPAK (Q-5), 0 to 100 degC, Pb-Free, Tape and Reel; Manufacturer: Linear Technology; PartNumber: LT1170CQ#TRPBF; Number of Outputs: 1; PackageReference: Q-5; PackageDescription: 5-Pin Plastic DD Pak, Body 10.2235 x 8.89 mm, Pitch 1.702 mm; Supplier 1: Digi-Key; Supplier Part Number 1: LT1170CQ#TRPBF-ND; RoHS: TRUE
footprint LT-Q-5_N (DPAK, 5-Leads, Body 10.22x8.89mm, Pitch 1.702mm, IPC Medium Density)
footprint LT-Q-5_L (DPAK, 5-Leads, Body 10.22x8.89mm, Pitch 1.702mm, IPC High Density)
footprint LT-Q-5_M (DPAK, 5-Leads, Body 10.22x8.89mm, Pitch 1.702mm, IPC Low Density)
pins: 1 VC, 2 FB (in), 3 GND (power), 4 VSW (power), 5 VIN (power), 6 TAB

## LT1170CT
designator U?
100 kHz, 5 A, High Efficiency Switching Regulator, 5-pin FM (T-5), 0 to 100 degC; Manufacturer: Linear Technology; PartNumber: LT1170CT; Number of Outputs: 1; PackageReference: T-5; PackageDescription: 5-Pin Plastic TO-220 (Standard), Body 10.224 x 8.89 mm, Pitch 1.7 mm; Supplier 1: Digi-Key; Supplier Part Number 1: LT1170CT-ND; RoHS: FALSE
footprint LT-T-5-S (FM, 5-Leads, Body 10.55x4.6mm, Pitch 1.7mm)
pins: 1 VC, 2 FB (in), 3 GND (power), 4 VSW (power), 5 VIN (power)

## LT1170CT#06PBF
designator U?
100 kHz, 5 A, High Efficiency Switching Regulator, 5-pin FM (T-5), 0 to 100 degC, Pb-Free; Manufacturer: Linear Technology; PartNumber: LT1170CT#06PBF; Number of Outputs: 1; PackageReference: T-5; PackageDescription: 5-Pin Plastic TO-220 (Standard), Body 10.224 x 8.89 mm, Pitch 1.7 mm; Supplier 1: Digi-Key; Supplier Part Number 1: LT1170CT#06PBF-ND; RoHS: TRUE
footprint LT-T-5-S (FM, 5-Leads, Body 10.55x4.6mm, Pitch 1.7mm)
pins: 1 VC, 2 FB (in), 3 GND (power), 4 VSW (power), 5 VIN (power)